# Altium footprint library CYPD3177-24LQXQT.PcbLib: 3 footprints
Each footprint in its own frame and in the unit in brackets; x right, y up, seen from the top. Pads: shape width x height; smd on the part's side, far side on the other; paste and mask are expansions set on the pad; w line width, h text height; cw(c..) or ccw(c..) is an arc to the next point about the centre after c.
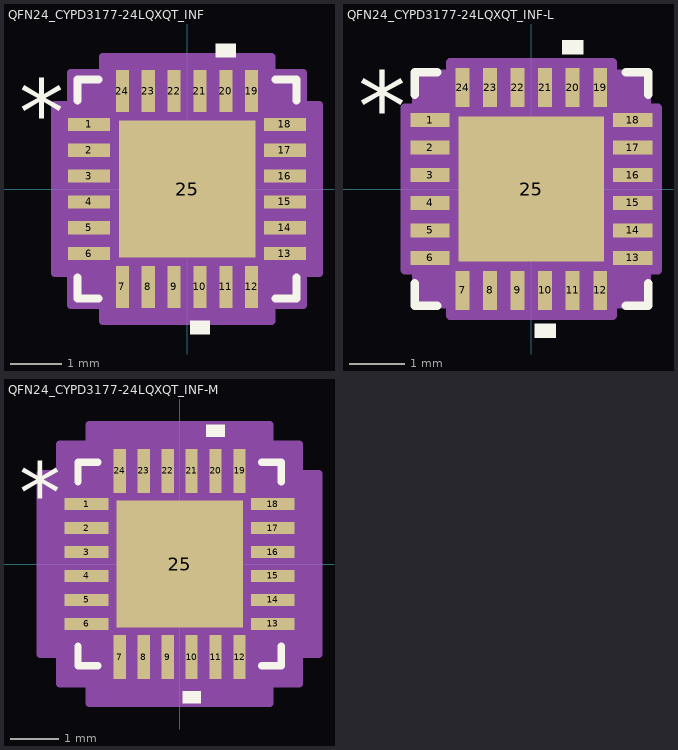
[diagram p0: the footprints below, top view; thin cyan lines are the x and y axes]

## QFN24_CYPD3177-24LQXQT_INF [mil]
pads (25):
  rect 32x10 smd paste+0 mask+0: 1(-74.5,49.21) 2(-74.5,29.53) 3(-74.5,9.84) 4(-74.5,-9.84) 5(-74.5,-29.53) 6(-74.5,-49.21) 13(74.5,-49.21) 14(74.5,-29.53) 15(74.5,-9.84) 16(74.5,9.84) 17(74.5,29.53) 18(74.5,49.21)
  rect 10x32 smd paste+0 mask+0: 7(-49.21,-74.5) 8(-29.53,-74.5) 9(-9.84,-74.5) 10(9.84,-74.5) 11(29.53,-74.5) 12(49.21,-74.5) 19(49.21,74.5) 20(29.53,74.5) 21(9.84,74.5) 22(-9.84,74.5) 23(-29.53,74.5) 24(-49.21,74.5)
  rect 104x104 smd paste-52 mask+0: 25(0,0)
Top Overlay:
  region: 17.34,-100.5 2.34,-100.5 2.34,-110.5 17.34,-110.5
  region: 37.03,100.5 22.03,100.5 22.03,110.5 37.03,110.5
  lines w6: -83.5,-67.31 -83.5,-83.5 -67.31,-83.5 ; -83.5,67.31 -83.5,83.5 -67.31,83.5 ; 67.31,-83.5 83.5,-83.5 83.5,-67.31 ; 67.31,83.5 83.5,83.5 83.5,67.31
  text "*" at -128,34.06 h50
  text ".Designator" at -137.5,-25 h50
Top Paste:
  region: -3.94,48.06 -48.06,48.06 -48.06,3.94 -3.94,3.94
  region: -3.94,-3.94 -48.06,-3.94 -48.06,-48.06 -3.94,-48.06
  region: 48.06,48.06 3.94,48.06 3.94,3.94 48.06,3.94
  region: 48.06,-3.94 3.94,-3.94 3.94,-48.06 48.06,-48.06
Mechanical 13:
  lines w1: -78.5,28.5 -28.5,78.5 ; -78.5,-78.5 78.5,-78.5 ; -78.5,-78.5 -78.5,78.5 ; -78.5,-78.5 -78.5,-78.5 ; -78.5,-55.21 -78.5,-43.21 ; -78.5,-55.21 -78.5,-43.21 ; -78.5,-55.21 -78.5,-55.21 ; -78.5,-43.21 -78.5,-43.21 ; -78.5,-35.53 -78.5,-23.53 ; -78.5,-35.53 -78.5,-23.53 ; -78.5,-35.53 -78.5,-35.53 ; -78.5,-23.53 -78.5,-23.53 ; -78.5,-15.84 -78.5,-3.84 ; -78.5,-15.84 -78.5,-3.84 ; -78.5,-15.84 -78.5,-15.84 ; -78.5,-3.84 -78.5,-3.84 ; -78.5,3.84 -78.5,15.84 ; -78.5,3.84 -78.5,15.84 ; -78.5,3.84 -78.5,3.84 ; -78.5,15.84 -78.5,15.84 ; -78.5,23.53 -78.5,35.53 ; -78.5,23.53 -78.5,35.53 ; -78.5,23.53 -78.5,23.53 ; -78.5,35.53 -78.5,35.53 ; -78.5,43.21 -78.5,55.21 ; -78.5,43.21 -78.5,55.21 ; -78.5,43.21 -78.5,43.21 ; -78.5,55.21 -78.5,55.21 ; -78.5,78.5 78.5,78.5 ; -78.5,78.5 -78.5,78.5 ; -55.21,-78.5 -43.21,-78.5 ; -55.21,-78.5 -55.21,-78.5 ; -55.21,-78.5 -43.21,-78.5 ; -55.21,78.5 -43.21,78.5 ; -55.21,78.5 -43.21,78.5 ; -55.21,78.5 -55.21,78.5 ; -43.21,-78.5 -43.21,-78.5 ; -43.21,78.5 -43.21,78.5 ; -35.53,-78.5 -23.53,-78.5 ; -35.53,-78.5 -35.53,-78.5 ; -35.53,-78.5 -23.53,-78.5 ; -35.53,78.5 -23.53,78.5 ; -35.53,78.5 -23.53,78.5 ; -35.53,78.5 -35.53,78.5 ; -23.53,-78.5 -23.53,-78.5 ; -23.53,78.5 -23.53,78.5 ; -15.84,-78.5 -3.84,-78.5 ; -15.84,-78.5 -15.84,-78.5 ; -15.84,-78.5 -3.84,-78.5 ; -15.84,78.5 -3.84,78.5 ; -15.84,78.5 -3.84,78.5 ; -15.84,78.5 -15.84,78.5 ; -3.84,-78.5 -3.84,-78.5 ; -3.84,78.5 -3.84,78.5 ; 3.84,-78.5 15.84,-78.5 ; 3.84,-78.5 3.84,-78.5 ; 3.84,-78.5 15.84,-78.5 ; 3.84,78.5 15.84,78.5 ; 3.84,78.5 15.84,78.5 ; 3.84,78.5 3.84,78.5 ; 15.84,-78.5 15.84,-78.5 ; 15.84,78.5 15.84,78.5 ; 23.53,-78.5 35.53,-78.5 ; 23.53,-78.5 23.53,-78.5 ; 23.53,-78.5 35.53,-78.5 ; 23.53,78.5 35.53,78.5 ; 23.53,78.5 35.53,78.5 ; 23.53,78.5 23.53,78.5 ; 35.53,-78.5 35.53,-78.5 ; 35.53,78.5 35.53,78.5 ; 43.21,-78.5 55.21,-78.5 ; 43.21,-78.5 43.21,-78.5 ; 43.21,-78.5 55.21,-78.5 ; 43.21,78.5 55.21,78.5 ; 43.21,78.5 55.21,78.5 ; 43.21,78.5 43.21,78.5 ; 55.21,-78.5 55.21,-78.5 ; 55.21,78.5 55.21,78.5 ; 78.5,-78.5 78.5,-78.5 ; 78.5,-78.5 78.5,78.5 ; 78.5,-55.21 78.5,-43.21 ; 78.5,-55.21 78.5,-55.21 ; 78.5,-55.21 78.5,-43.21 ; 78.5,-43.21 78.5,-43.21 ; 78.5,-35.53 78.5,-23.53 ; 78.5,-35.53 78.5,-35.53 ; 78.5,-35.53 78.5,-23.53 ; 78.5,-23.53 78.5,-23.53 ; 78.5,-15.84 78.5,-3.84 ; 78.5,-15.84 78.5,-15.84 ; 78.5,-15.84 78.5,-3.84 ; 78.5,-3.84 78.5,-3.84 ; 78.5,3.84 78.5,15.84 ; 78.5,3.84 78.5,3.84 ; 78.5,3.84 78.5,15.84 ; 78.5,15.84 78.5,15.84 ; 78.5,23.53 78.5,35.53 ; 78.5,23.53 78.5,23.53 ; 78.5,23.53 78.5,35.53 ; 78.5,35.53 78.5,35.53 ; 78.5,43.21 78.5,55.21 ; 78.5,43.21 78.5,43.21 ; 78.5,43.21 78.5,55.21 ; 78.5,55.21 78.5,55.21 ; 78.5,78.5 78.5,78.5
  text ".Designator" at -137.5,-25 h50
  text "*" at -71,34.06 h50
Mechanical 15:
  region: -64.21,-88.5 -88.5,-88.5 -88.5,-64.21 -100.5,-64.21 -100.5,64.21 -88.5,64.21 -88.5,88.5 -64.21,88.5 -64.21,100.5 64.21,100.5 64.21,88.5 88.5,88.5 88.5,64.21 100.5,64.21 100.5,-64.21 88.5,-64.21 88.5,-88.5 64.21,-88.5 64.21,-100.5 -64.21,-100.5
  lines w6: -100.5,-64.21 -88.5,-64.21 -88.5,-88.5 -64.21,-88.5 -64.21,-100.5 64.21,-100.5 64.21,-88.5 88.5,-88.5 88.5,-64.21 100.5,-64.21 100.5,64.21 88.5,64.21 88.5,88.5 64.21,88.5 64.21,100.5 -64.21,100.5 -64.21,88.5 -88.5,88.5 -88.5,64.21 -100.5,64.21 -100.5,-64.21
3D body "QFN24_CYPD3177-24LQXQT_INF.step": height 24.09, standoff 0, extent -78.5,-78.5 78.5,78.5

## QFN24_CYPD3177-24LQXQT_INF-L [mil]
pads (25):
  rect 28x10 smd paste+0 mask+0: 1(-72.5,49.21) 2(-72.5,29.53) 3(-72.5,9.84) 4(-72.5,-9.84) 5(-72.5,-29.53) 6(-72.5,-49.21) 13(72.5,-49.21) 14(72.5,-29.53) 15(72.5,-9.84) 16(72.5,9.84) 17(72.5,29.53) 18(72.5,49.21)
  rect 10x28 smd paste+0 mask+0: 7(-49.21,-72.5) 8(-29.53,-72.5) 9(-9.84,-72.5) 10(9.84,-72.5) 11(29.53,-72.5) 12(49.21,-72.5) 19(49.21,72.5) 20(29.53,72.5) 21(9.84,72.5) 22(-9.84,72.5) 23(-29.53,72.5) 24(-49.21,72.5)
  rect 104x104 smd paste-52 mask+0: 25(0,0)
Top Overlay:
  region: 17.34,-96.5 2.34,-96.5 2.34,-106.5 17.34,-106.5
  region: 37.03,96.5 22.03,96.5 22.03,106.5 37.03,106.5
  lines w6: -83.5,-67.31 -83.5,-83.5 -67.31,-83.5 ; -83.5,67.31 -83.5,83.5 -67.31,83.5 ; 67.31,-83.5 83.5,-83.5 83.5,-67.31 ; 67.31,83.5 83.5,83.5 83.5,67.31
  text "*" at -124,34.06 h50
  text ".Designator" at -137.5,-25 h50
Top Paste:
  region: -3.94,48.06 -48.06,48.06 -48.06,3.94 -3.94,3.94
  region: -3.94,-3.94 -48.06,-3.94 -48.06,-48.06 -3.94,-48.06
  region: 48.06,48.06 3.94,48.06 3.94,3.94 48.06,3.94
  region: 48.06,-3.94 3.94,-3.94 3.94,-48.06 48.06,-48.06
Mechanical 13:
  lines w1: -78.5,28.5 -28.5,78.5 ; -78.5,-78.5 78.5,-78.5 ; -78.5,-78.5 -78.5,78.5 ; -78.5,-78.5 -78.5,-78.5 ; -78.5,-55.21 -78.5,-43.21 ; -78.5,-55.21 -78.5,-43.21 ; -78.5,-55.21 -78.5,-55.21 ; -78.5,-43.21 -78.5,-43.21 ; -78.5,-35.53 -78.5,-23.53 ; -78.5,-35.53 -78.5,-23.53 ; -78.5,-35.53 -78.5,-35.53 ; -78.5,-23.53 -78.5,-23.53 ; -78.5,-15.84 -78.5,-3.84 ; -78.5,-15.84 -78.5,-3.84 ; -78.5,-15.84 -78.5,-15.84 ; -78.5,-3.84 -78.5,-3.84 ; -78.5,3.84 -78.5,15.84 ; -78.5,3.84 -78.5,15.84 ; -78.5,3.84 -78.5,3.84 ; -78.5,15.84 -78.5,15.84 ; -78.5,23.53 -78.5,35.53 ; -78.5,23.53 -78.5,35.53 ; -78.5,23.53 -78.5,23.53 ; -78.5,35.53 -78.5,35.53 ; -78.5,43.21 -78.5,55.21 ; -78.5,43.21 -78.5,55.21 ; -78.5,43.21 -78.5,43.21 ; -78.5,55.21 -78.5,55.21 ; -78.5,78.5 78.5,78.5 ; -78.5,78.5 -78.5,78.5 ; -55.21,-78.5 -43.21,-78.5 ; -55.21,-78.5 -55.21,-78.5 ; -55.21,-78.5 -43.21,-78.5 ; -55.21,78.5 -43.21,78.5 ; -55.21,78.5 -43.21,78.5 ; -55.21,78.5 -55.21,78.5 ; -43.21,-78.5 -43.21,-78.5 ; -43.21,78.5 -43.21,78.5 ; -35.53,-78.5 -23.53,-78.5 ; -35.53,-78.5 -35.53,-78.5 ; -35.53,-78.5 -23.53,-78.5 ; -35.53,78.5 -23.53,78.5 ; -35.53,78.5 -23.53,78.5 ; -35.53,78.5 -35.53,78.5 ; -23.53,-78.5 -23.53,-78.5 ; -23.53,78.5 -23.53,78.5 ; -15.84,-78.5 -3.84,-78.5 ; -15.84,-78.5 -15.84,-78.5 ; -15.84,-78.5 -3.84,-78.5 ; -15.84,78.5 -3.84,78.5 ; -15.84,78.5 -3.84,78.5 ; -15.84,78.5 -15.84,78.5 ; -3.84,-78.5 -3.84,-78.5 ; -3.84,78.5 -3.84,78.5 ; 3.84,-78.5 15.84,-78.5 ; 3.84,-78.5 3.84,-78.5 ; 3.84,-78.5 15.84,-78.5 ; 3.84,78.5 15.84,78.5 ; 3.84,78.5 15.84,78.5 ; 3.84,78.5 3.84,78.5 ; 15.84,-78.5 15.84,-78.5 ; 15.84,78.5 15.84,78.5 ; 23.53,-78.5 35.53,-78.5 ; 23.53,-78.5 23.53,-78.5 ; 23.53,-78.5 35.53,-78.5 ; 23.53,78.5 35.53,78.5 ; 23.53,78.5 35.53,78.5 ; 23.53,78.5 23.53,78.5 ; 35.53,-78.5 35.53,-78.5 ; 35.53,78.5 35.53,78.5 ; 43.21,-78.5 55.21,-78.5 ; 43.21,-78.5 43.21,-78.5 ; 43.21,-78.5 55.21,-78.5 ; 43.21,78.5 55.21,78.5 ; 43.21,78.5 55.21,78.5 ; 43.21,78.5 43.21,78.5 ; 55.21,-78.5 55.21,-78.5 ; 55.21,78.5 55.21,78.5 ; 78.5,-78.5 78.5,-78.5 ; 78.5,-78.5 78.5,78.5 ; 78.5,-55.21 78.5,-43.21 ; 78.5,-55.21 78.5,-55.21 ; 78.5,-55.21 78.5,-43.21 ; 78.5,-43.21 78.5,-43.21 ; 78.5,-35.53 78.5,-23.53 ; 78.5,-35.53 78.5,-35.53 ; 78.5,-35.53 78.5,-23.53 ; 78.5,-23.53 78.5,-23.53 ; 78.5,-15.84 78.5,-3.84 ; 78.5,-15.84 78.5,-15.84 ; 78.5,-15.84 78.5,-3.84 ; 78.5,-3.84 78.5,-3.84 ; 78.5,3.84 78.5,15.84 ; 78.5,3.84 78.5,3.84 ; 78.5,3.84 78.5,15.84 ; 78.5,15.84 78.5,15.84 ; 78.5,23.53 78.5,35.53 ; 78.5,23.53 78.5,23.53 ; 78.5,23.53 78.5,35.53 ; 78.5,35.53 78.5,35.53 ; 78.5,43.21 78.5,55.21 ; 78.5,43.21 78.5,43.21 ; 78.5,43.21 78.5,55.21 ; 78.5,55.21 78.5,55.21 ; 78.5,78.5 78.5,78.5
  text ".Designator" at -137.5,-25 h50
  text "*" at -71,34.06 h50
Mechanical 15:
  region: -58.21,-82.5 -82.5,-82.5 -82.5,-58.21 -90.5,-58.21 -90.5,58.21 -82.5,58.21 -82.5,82.5 -58.21,82.5 -58.21,90.5 58.21,90.5 58.21,82.5 82.5,82.5 82.5,58.21 90.5,58.21 90.5,-58.21 82.5,-58.21 82.5,-82.5 58.21,-82.5 58.21,-90.5 -58.21,-90.5
  lines w6: -90.5,-58.21 -82.5,-58.21 -82.5,-82.5 -58.21,-82.5 -58.21,-90.5 58.21,-90.5 58.21,-82.5 82.5,-82.5 82.5,-58.21 90.5,-58.21 90.5,58.21 82.5,58.21 82.5,82.5 58.21,82.5 58.21,90.5 -58.21,90.5 -58.21,82.5 -82.5,82.5 -82.5,58.21 -90.5,58.21 -90.5,-58.21
3D body "QFN24_CYPD3177-24LQXQT_INF.step": height 24.09, standoff 0, extent -78.5,-78.5 78.5,78.5

## QFN24_CYPD3177-24LQXQT_INF-M [mil]
pads (25):
  rect 36x10 smd paste+0 mask+0: 1(-76.5,49.21) 2(-76.5,29.53) 3(-76.5,9.84) 4(-76.5,-9.84) 5(-76.5,-29.53) 6(-76.5,-49.21) 13(76.5,-49.21) 14(76.5,-29.53) 15(76.5,-9.84) 16(76.5,9.84) 17(76.5,29.53) 18(76.5,49.21)
  rect 10x36 smd paste+0 mask+0: 7(-49.21,-76.5) 8(-29.53,-76.5) 9(-9.84,-76.5) 10(9.84,-76.5) 11(29.53,-76.5) 12(49.21,-76.5) 19(49.21,76.5) 20(29.53,76.5) 21(9.84,76.5) 22(-9.84,76.5) 23(-29.53,76.5) 24(-49.21,76.5)
  rect 104x104 smd paste-52 mask+0: 25(0,0)
Top Overlay:
  region: 17.34,-104.5 2.34,-104.5 2.34,-114.5 17.34,-114.5
  region: 37.03,104.5 22.03,104.5 22.03,114.5 37.03,114.5
  lines w6: -83.5,-67.31 -83.5,-83.5 -67.31,-83.5 ; -83.5,67.31 -83.5,83.5 -67.31,83.5 ; 67.31,-83.5 83.5,-83.5 83.5,-67.31 ; 67.31,83.5 83.5,83.5 83.5,67.31
  text "*" at -132,34.06 h50
  text ".Designator" at -137.5,-25 h50
Top Paste:
  region: -3.94,48.06 -48.06,48.06 -48.06,3.94 -3.94,3.94
  region: -3.94,-3.94 -48.06,-3.94 -48.06,-48.06 -3.94,-48.06
  region: 48.06,48.06 3.94,48.06 3.94,3.94 48.06,3.94
  region: 48.06,-3.94 3.94,-3.94 3.94,-48.06 48.06,-48.06
Mechanical 13:
  lines w1: -78.5,28.5 -28.5,78.5 ; -78.5,-78.5 78.5,-78.5 ; -78.5,-78.5 -78.5,78.5 ; -78.5,-78.5 -78.5,-78.5 ; -78.5,-55.21 -78.5,-43.21 ; -78.5,-55.21 -78.5,-43.21 ; -78.5,-55.21 -78.5,-55.21 ; -78.5,-43.21 -78.5,-43.21 ; -78.5,-35.53 -78.5,-23.53 ; -78.5,-35.53 -78.5,-23.53 ; -78.5,-35.53 -78.5,-35.53 ; -78.5,-23.53 -78.5,-23.53 ; -78.5,-15.84 -78.5,-3.84 ; -78.5,-15.84 -78.5,-3.84 ; -78.5,-15.84 -78.5,-15.84 ; -78.5,-3.84 -78.5,-3.84 ; -78.5,3.84 -78.5,15.84 ; -78.5,3.84 -78.5,15.84 ; -78.5,3.84 -78.5,3.84 ; -78.5,15.84 -78.5,15.84 ; -78.5,23.53 -78.5,35.53 ; -78.5,23.53 -78.5,35.53 ; -78.5,23.53 -78.5,23.53 ; -78.5,35.53 -78.5,35.53 ; -78.5,43.21 -78.5,55.21 ; -78.5,43.21 -78.5,55.21 ; -78.5,43.21 -78.5,43.21 ; -78.5,55.21 -78.5,55.21 ; -78.5,78.5 78.5,78.5 ; -78.5,78.5 -78.5,78.5 ; -55.21,-78.5 -43.21,-78.5 ; -55.21,-78.5 -55.21,-78.5 ; -55.21,-78.5 -43.21,-78.5 ; -55.21,78.5 -43.21,78.5 ; -55.21,78.5 -43.21,78.5 ; -55.21,78.5 -55.21,78.5 ; -43.21,-78.5 -43.21,-78.5 ; -43.21,78.5 -43.21,78.5 ; -35.53,-78.5 -23.53,-78.5 ; -35.53,-78.5 -35.53,-78.5 ; -35.53,-78.5 -23.53,-78.5 ; -35.53,78.5 -23.53,78.5 ; -35.53,78.5 -23.53,78.5 ; -35.53,78.5 -35.53,78.5 ; -23.53,-78.5 -23.53,-78.5 ; -23.53,78.5 -23.53,78.5 ; -15.84,-78.5 -3.84,-78.5 ; -15.84,-78.5 -15.84,-78.5 ; -15.84,-78.5 -3.84,-78.5 ; -15.84,78.5 -3.84,78.5 ; -15.84,78.5 -3.84,78.5 ; -15.84,78.5 -15.84,78.5 ; -3.84,-78.5 -3.84,-78.5 ; -3.84,78.5 -3.84,78.5 ; 3.84,-78.5 15.84,-78.5 ; 3.84,-78.5 3.84,-78.5 ; 3.84,-78.5 15.84,-78.5 ; 3.84,78.5 15.84,78.5 ; 3.84,78.5 15.84,78.5 ; 3.84,78.5 3.84,78.5 ; 15.84,-78.5 15.84,-78.5 ; 15.84,78.5 15.84,78.5 ; 23.53,-78.5 35.53,-78.5 ; 23.53,-78.5 23.53,-78.5 ; 23.53,-78.5 35.53,-78.5 ; 23.53,78.5 35.53,78.5 ; 23.53,78.5 35.53,78.5 ; 23.53,78.5 23.53,78.5 ; 35.53,-78.5 35.53,-78.5 ; 35.53,78.5 35.53,78.5 ; 43.21,-78.5 55.21,-78.5 ; 43.21,-78.5 43.21,-78.5 ; 43.21,-78.5 55.21,-78.5 ; 43.21,78.5 55.21,78.5 ; 43.21,78.5 55.21,78.5 ; 43.21,78.5 43.21,78.5 ; 55.21,-78.5 55.21,-78.5 ; 55.21,78.5 55.21,78.5 ; 78.5,-78.5 78.5,-78.5 ; 78.5,-78.5 78.5,78.5 ; 78.5,-55.21 78.5,-43.21 ; 78.5,-55.21 78.5,-55.21 ; 78.5,-55.21 78.5,-43.21 ; 78.5,-43.21 78.5,-43.21 ; 78.5,-35.53 78.5,-23.53 ; 78.5,-35.53 78.5,-35.53 ; 78.5,-35.53 78.5,-23.53 ; 78.5,-23.53 78.5,-23.53 ; 78.5,-15.84 78.5,-3.84 ; 78.5,-15.84 78.5,-15.84 ; 78.5,-15.84 78.5,-3.84 ; 78.5,-3.84 78.5,-3.84 ; 78.5,3.84 78.5,15.84 ; 78.5,3.84 78.5,3.84 ; 78.5,3.84 78.5,15.84 ; 78.5,15.84 78.5,15.84 ; 78.5,23.53 78.5,35.53 ; 78.5,23.53 78.5,23.53 ; 78.5,23.53 78.5,35.53 ; 78.5,35.53 78.5,35.53 ; 78.5,43.21 78.5,55.21 ; 78.5,43.21 78.5,43.21 ; 78.5,43.21 78.5,55.21 ; 78.5,55.21 78.5,55.21 ; 78.5,78.5 78.5,78.5
  text ".Designator" at -137.5,-25 h50
  text "*" at -71,34.06 h50
Mechanical 15:
  region: -74.21,-98.5 -98.5,-98.5 -98.5,-74.21 -114.5,-74.21 -114.5,74.21 -98.5,74.21 -98.5,98.5 -74.21,98.5 -74.21,114.5 74.21,114.5 74.21,98.5 98.5,98.5 98.5,74.21 114.5,74.21 114.5,-74.21 98.5,-74.21 98.5,-98.5 74.21,-98.5 74.21,-114.5 -74.21,-114.5
  lines w6: -114.5,-74.21 -98.5,-74.21 -98.5,-98.5 -74.21,-98.5 -74.21,-114.5 74.21,-114.5 74.21,-98.5 98.5,-98.5 98.5,-74.21 114.5,-74.21 114.5,74.21 98.5,74.21 98.5,98.5 74.21,98.5 74.21,114.5 -74.21,114.5 -74.21,98.5 -98.5,98.5 -98.5,74.21 -114.5,74.21 -114.5,-74.21
3D body "QFN24_CYPD3177-24LQXQT_INF.step": height 24.09, standoff 0, extent -78.5,-78.5 78.5,78.5